# Altium footprint library diode.PCBLIB: 206 footprints (part 13 of 13)
Each footprint in its own frame and in the unit in brackets; x right, y up, seen from the top. Pads: shape width x height; smd on the part's side, far side on the other; paste and mask are expansions set on the pad; w line width, h text height; cw(c..) or ccw(c..) is an arc to the next point about the centre after c.
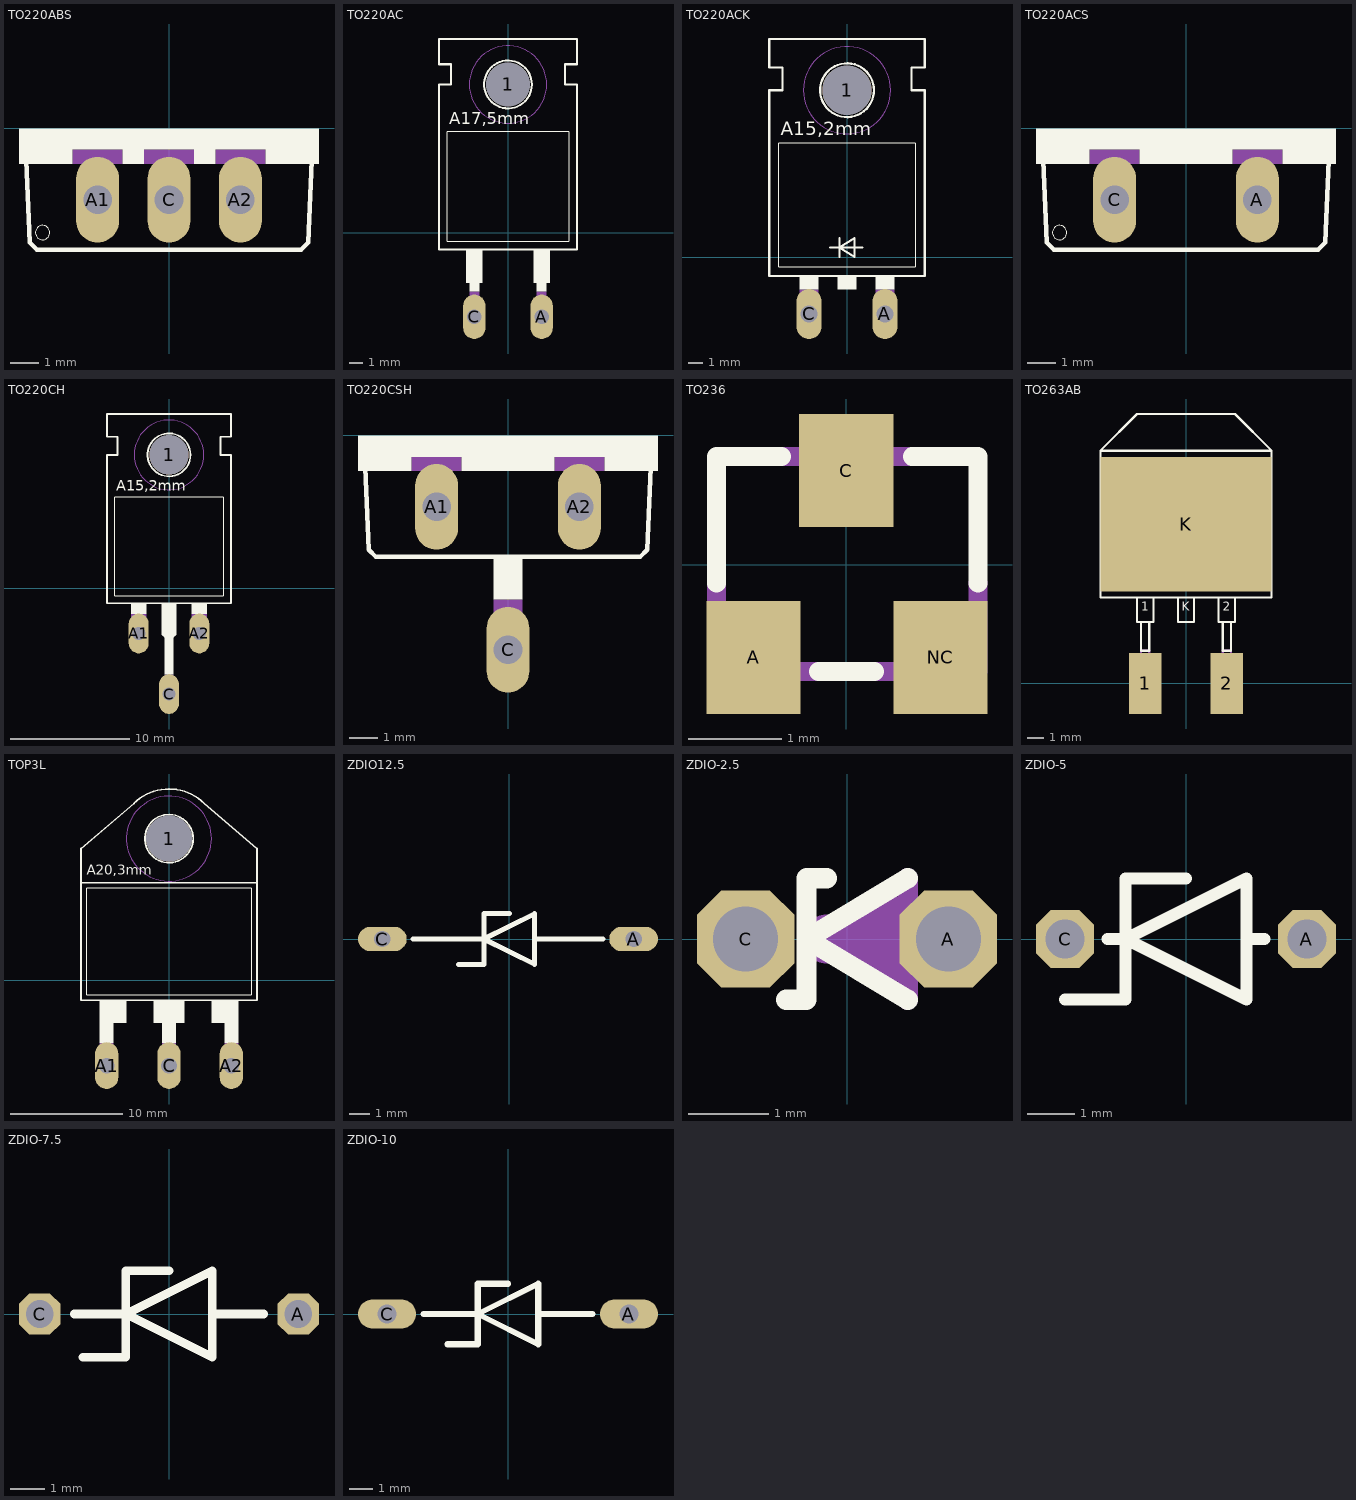
[diagram p12: the footprints below, top view; thin cyan lines are the x and y axes]

## TO220ABS [mil]
pads (3):
  oval 60x120 hole 40: A1(-100,-100) A2(100,-100) C(0,-100)
Top Overlay:
  circle w0: c-177,-146 r10
  rectangle: -210,-30 210,0
  rectangle: -210,-50 -135,-30
  rectangle: -65,-50 -35,-30
  rectangle: 35,-50 65,-30
  rectangle: 135,-50 210,-30
  lines w6: -200,-45 -195,-160 -185,-170 185,-170 195,-160 200,-45
Mechanical 2:
  text ">NAME" at -200,-238 h77.5
Mechanical 4:
  text ">VALUE" at -200,-300 h77.5
Mechanical 16:
  rectangle: -135,-50 -65,-30
  rectangle: -35,-50 35,-30
  rectangle: 65,-50 135,-30

## TO220AC [mil]
pads (3):
  round 130 hole 130: 1(0,440)
  oval 66x132 hole 44: A(100,-250) C(-100,-250)
Top Overlay:
  circle w6: c0,440 r71
  rectangle: 85,-175 115,-150
  rectangle: -115,-175 -85,-150
  rectangle: -125,-150 -75,-50
  rectangle: 75,-150 125,-50
  lines w2: -180,-25 180,-25 180,300 -180,300 -180,-25
  lines w6: -205,-50 205,-50 205,440 170,440 170,500 205,500 205,575 -205,575 -205,500 -170,500 -170,440 -205,440 -205,-50
  text "A17,5mm" at -175,310 h60.45
Mechanical 2:
  text ">NAME" at -215,-50 h108.5
Mechanical 4:
  text ">VALUE" at -155,100 h108.5
Mechanical 9:
  circle w0: c0,440 r115
Mechanical 10:
  circle w0: c0,440 r115
Mechanical 16:
  rectangle: 85,-250 115,-175
  rectangle: -115,-250 -85,-175

## TO220ACK [mil]
pads (3):
  round 130 hole 130: 1(0,440)
  oval 66x132 hole 44: A(100,-150) C(-100,-150)
Top Overlay:
  circle w6: c0,440 r71
  rectangle: -125,-85 -75,-50
  rectangle: 75,-85 125,-50
  rectangle: -25,-85 25,-50
  lines w2: -180,-25 180,-25 180,300 -180,300 -180,-25
  lines w6: -45,25 -20,25 ; -20,0 -20,25 ; -20,50 -20,25 ; 40,25 -20,25 ; -20,25 20,0 20,50 -20,25 ; -205,-50 205,-50 205,440 170,440 170,500 205,500 205,575 -205,575 -205,500 -170,500 -170,440 -205,440 -205,-50
  text "A15,2mm" at -175,310 h60.45
Mechanical 2:
  text ">NAME" at -215,-50 h108.5
Mechanical 4:
  text ">VALUE" at -155,100 h108.5
Mechanical 9:
  circle w0: c0,440 r115
Mechanical 10:
  circle w0: c0,440 r115
Mechanical 16:
  rectangle: -125,-150 -75,-85
  rectangle: 75,-150 125,-85

## TO220ACS [mil]
pads (2):
  oval 60x120 hole 40: A(100,-100) C(-100,-100)
Top Overlay:
  circle w0: c-177,-146 r10
  rectangle: -210,-30 210,0
  rectangle: -210,-50 -135,-30
  rectangle: 135,-50 210,-30
  rectangle: -65,-50 65,-30
  lines w6: -200,-45 -195,-160 -185,-170 185,-170 195,-160 200,-45
Mechanical 2:
  text ">NAME" at -200,-238 h77.5
Mechanical 4:
  text ">VALUE" at -200,-300 h77.5
Mechanical 16:
  rectangle: -135,-50 -65,-30
  rectangle: 65,-50 135,-30

## TO220CH [mil]
pads (4):
  round 130 hole 130: 1(0,440)
  oval 66x132 hole 44: A1(-100,-150) A2(100,-150) C(0,-350)
Top Overlay:
  circle w6: c0,440 r71
  rectangle: -125,-85 -75,-50
  rectangle: 75,-85 125,-50
  rectangle: -15,-285 15,-155
  rectangle: -25,-155 25,-50
  lines w2: -180,-25 180,-25 180,300 -180,300 -180,-25
  lines w6: -205,-50 205,-50 205,440 170,440 170,500 205,500 205,575 -205,575 -205,500 -170,500 -170,440 -205,440 -205,-50
  lines w20: -15,-150 -10,-155 ; 10,-155 15,-150
  text "A15,2mm" at -175,310 h60.45
Mechanical 2:
  text ">NAME" at -220,-50 h108.5
Mechanical 4:
  text ">VALUE" at -155,100 h108.5
Mechanical 9:
  circle w0: c0,440 r115
Mechanical 10:
  circle w0: c0,440 r115
Mechanical 16:
  rectangle: -125,-150 -75,-85
  rectangle: 75,-150 125,-85
  rectangle: -15,-350 15,-285

## TO220CSH [mil]
pads (3):
  oval 60x120 hole 40: A1(-100,-100) A2(100,-100) C(0,-300)
Top Overlay:
  rectangle: -210,-30 210,0
  rectangle: -210,-50 -135,-30
  rectangle: 135,-50 210,-30
  rectangle: -20,-230 20,-170
  rectangle: -65,-50 65,-30
  lines w6: -200,-45 -195,-160 -185,-170 185,-170 195,-160 200,-45
Mechanical 2:
  text ">NAME" at 60,-238 h77.5
Mechanical 4:
  text ">VALUE" at 60,-300 h77.5
Mechanical 16:
  rectangle: -135,-50 -65,-30
  rectangle: 65,-50 135,-30
  rectangle: -20,-300 20,-230

## TO236 [mil]
pads (3):
  rect 40x48 smd: A(-39.37,-39.37) C(0,40) NC(40,-39.37)
Top Overlay:
  lines w8: -55.12,-7.87 -55.12,46 -27.56,46 ; -11.81,-45.28 12,-45.28 ; 28,46 56,46 56,-7.87
Mechanical 2:
  text ">NAME" at -55,71 h77.5
Mechanical 4:
  text ">VALUE" at -60,-120.63 h77.5
Mechanical 16:
  rectangle: -7.87,24 8,50
  rectangle: -47.24,-49.21 -31.5,-23.62
  rectangle: 32,-49.21 48,-23.62
  lines w8: -55.12,-7.87 -55.12,-45.28 -11.81,-45.28 ; -27.56,46 28,46 ; 12,-45.28 56,-45.28 56,-7.87

## TO263AB [mil]
pads (3):
  rect 80x150 smd: 1(-100,0) 2(100,0)
  rect 420x330 smd: K(0,390)
Top Overlay:
  lines w5: -210,570 210,570 ; -210,570 -210,210 -120,210 ; -210,570 -120,660 120,660 210,570 ; -120,210 -80,210 ; -120,210 -120,150 -110,150 ; -110,150 -90,150 ; -110,150 -110,80 -90,80 -90,150 ; -90,150 -80,150 -80,210 ; -80,210 -20,210 ; -20,210 20,210 ; -20,210 -20,150 20,150 20,210 ; 20,210 80,210 ; 80,210 120,210 ; 80,210 80,150 90,150 ; 90,150 110,150 ; 90,150 90,80 110,80 110,150 ; 110,150 120,150 120,210 ; 120,210 210,210 210,570
  text "1" at -110,170 h37.2
  text "K" at -10,170 h37.2
  text "2" at 90,170 h37.2
Mechanical 2:
  text ">NAME" at -250,250 h77.5
Mechanical 4:
  text ">VALUE" at 300,250 h77.5
Mechanical 16:
  lines w5: -190,230 190,230 190,550 -190,550 -190,230 ; -110,30 -110,80 -90,80 -90,30 -110,30 ; 90,30 90,80 110,80 110,30 90,30

## TOP3L [mil]
pads (4):
  round 162 hole 162: 1(0,500)
  oval 82.5x165 hole 55: A1(-220,-300) A2(220,-300) C(0,-300)
Top Overlay:
  circle w6: c0,500 r85
  rectangle: -245,-150 -150,-70
  rectangle: -55,-150 55,-70
  rectangle: 150,-150 245,-70
  rectangle: 195,-220 245,-150
  rectangle: -25,-220 25,-150
  rectangle: -245,-220 -195,-150
  lines w2: -290,-50 290,-50 290,325 -290,325 -290,-50
  lines w6: -123.74,624 cw(c-0.31,500.13) 0,675 cw(c0.44,499.82) 124,624 ; -123,624 -310,465 -310,345 ; 123,625 310,465 310,345 ; -310,345 -310,-70 310,-70 310,345 ; -310,345 310,345
  text "A20,3mm" at -290,360 h60.45
Mechanical 2:
  text ">NAME" at -320,-70 h108.5
Mechanical 4:
  text ">VALUE" at -200,100 h108.5
Mechanical 9:
  circle w0: c0,500 r150
Mechanical 10:
  circle w0: c0,500 r150
Mechanical 16:
  rectangle: -245,-295 -195,-220
  rectangle: -25,-295 25,-220
  rectangle: 195,-295 245,-220

## ZDIO12.5 [mil]
pads (2):
  oval 96x48 hole 32: A(245,0) C(-250,0)
Top Overlay:
  lines w10: -190,0 -50,0 ; -100,-50 -50,-50 -50,0 ; 0,50 -50,50 -50,0 ; 185,0 50,0 ; -50,0 50,50 50,0 ; -50,0 50,-50 50,0
Mechanical 2:
  text ">NAME" at -103,67 h77.5
Mechanical 4:
  text ">VALUE" at -105,-120 h77.5

## ZDIO-2.5 [mil]
pads (2):
  oct 48x48 hole 32: A(50,0) C(-50,0)
Top Overlay:
  lines w10: -30,-30 -20,-30 -20,0 ; -10,30 -20,30 -20,0 ; 30,-30 -20,0 ; 30,30 -20,0
Mechanical 2:
  text ">NAME" at -53,42 h77.5
Mechanical 4:
  text ">VALUE" at -50,-90 h77.5
Mechanical 16:
  lines w10: 30,-30 30,30
  lines w24: -10,0 20,0 ; 20,-10 20,0 ; 20,10 20,0

## ZDIO-5 [mil]
pads (2):
  oct 48x48 hole 32: A(100,0) C(-100,0)
Top Overlay:
  lines w10: -100,-50 -50,-50 -50,0 ; -65,0 -50,0 ; 0,50 -50,50 -50,0 ; 65,0 50,0 ; -50,0 50,50 50,0 ; -50,0 50,-50 50,0
Mechanical 2:
  text ">NAME" at -103,72 h77.5
Mechanical 4:
  text ">VALUE" at -100,-120 h77.5

## ZDIO-7.5 [mil]
pads (2):
  oct 48x48 hole 32: A(150,0) C(-150,0)
Top Overlay:
  lines w10: -110,0 -50,0 ; -100,-50 -50,-50 -50,0 ; 0,50 -50,50 -50,0 ; 110,0 50,0 ; -50,0 50,50 50,0 ; -50,0 50,-50 50,0
Mechanical 2:
  text ">NAME" at -98,67 h77.5
Mechanical 4:
  text ">VALUE" at -100,-120 h77.5

## ZDIO-10 [mil]
pads (2):
  oval 96x48 hole 32: A(200,0) C(-200,0)
Top Overlay:
  lines w10: -140,0 -50,0 ; -100,-50 -50,-50 -50,0 ; 0,50 -50,50 -50,0 ; 140,0 50,0 ; -50,0 50,50 50,0 ; -50,0 50,-50 50,0
Mechanical 2:
  text ">NAME" at -98,72 h77.5
Mechanical 4:
  text ">VALUE" at -100,-120 h77.5